# Altium schematic symbol library CN_TX53-CONNECTOR.Schlib: 1 symbol
Pins are listed as number, name and electrical type; pins without a type are passive.

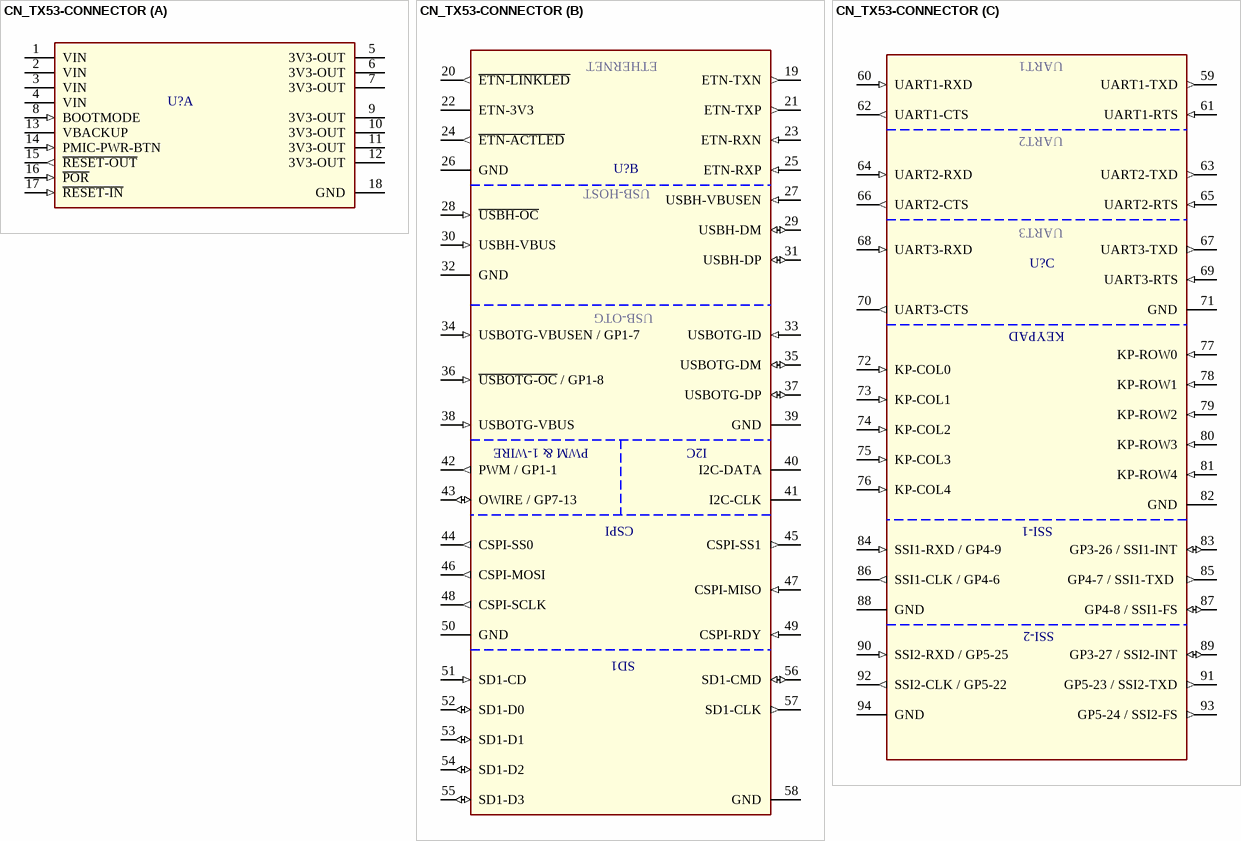
[diagram p0: symbol CN_TX53-CONNECTOR]

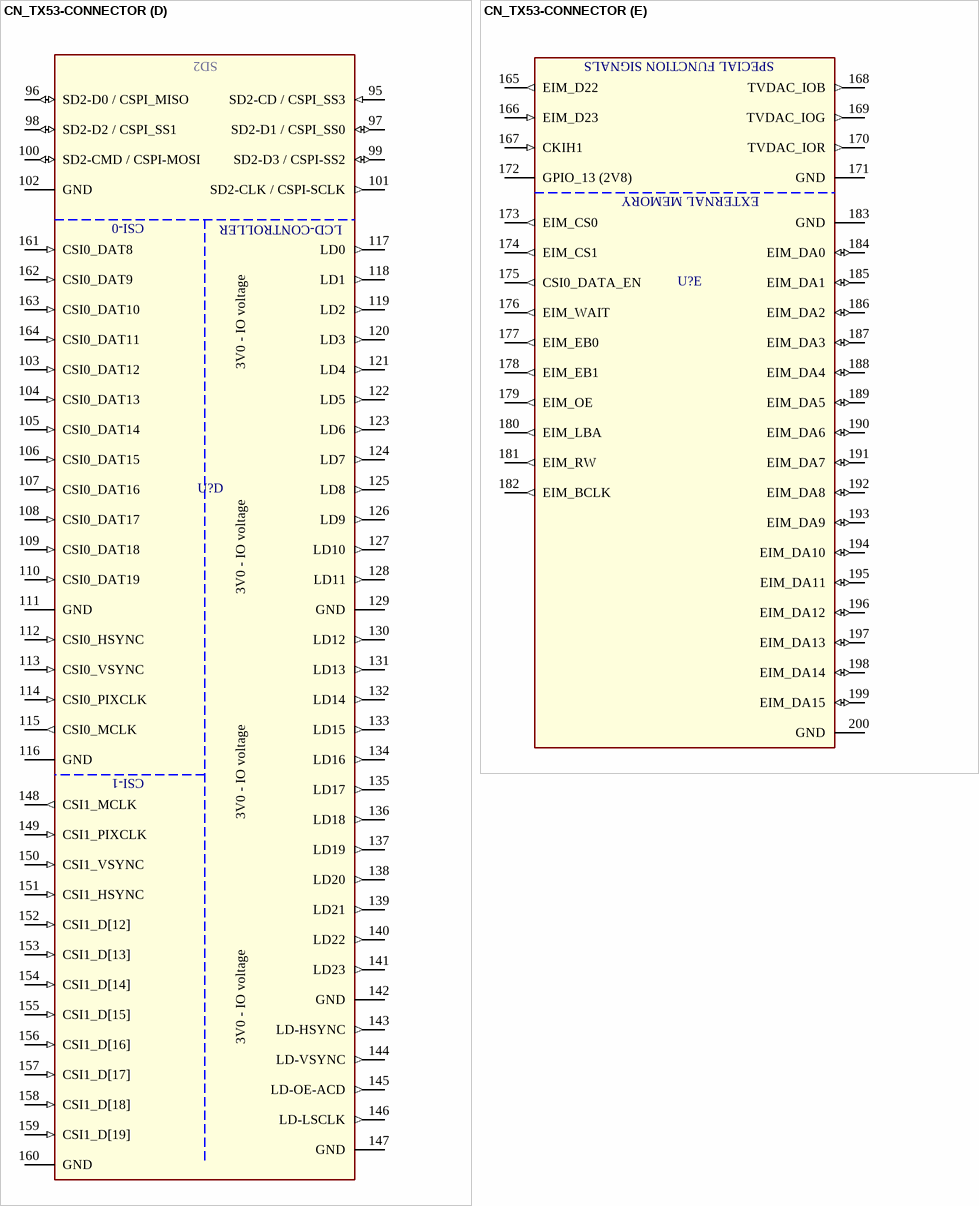
[diagram p1: symbol CN_TX53-CONNECTOR]

## CN_TX53-CONNECTOR
designator U?
part A pins: 1 VIN (power), 2 VIN (power), 3 VIN (power), 4 VIN (power), 5 3V3-OUT (power), 6 3V3-OUT (power), 7 3V3-OUT (power), 8 BOOTMODE (in), 9 3V3-OUT (power), 10 3V3-OUT (power), 11 3V3-OUT (power), 12 3V3-OUT (power), 13 VBACKUP (power), 14 PMIC-PWR-BTN (in), 15 ~{RESET-OUT} (out), 16 ~{POR} (in), 17 ~{RESET-IN} (in), 18 GND (power)
part B pins: 19 ETN-TXN (out), 20 ~{ETN-LINKLED} (out), 21 ETN-TXP (out), 22 ETN-3V3 (power), 23 ETN-RXN (in), 24 ~{ETN-ACTLED} (out), 25 ETN-RXP (in), 26 GND (power), 27 USBH-VBUSEN (in), 28 ~{USBH-OC} (in), 29 USBH-DM (io), 30 USBH-VBUS (in), 31 USBH-DP (io), 32 GND (power), 33 USBOTG-ID (in), 34 USBOTG-VBUSEN / GP1-7 (in), 35 USBOTG-DM (io), 36 ~{USBOTG-OC} / GP1-8 (in), 37 USBOTG-DP (io), 38 USBOTG-VBUS (in), 39 GND (power), 40 I2C-DATA (oc), 41 I2C-CLK (oc), 42 PWM / GP1-1 (out), 43 OWIRE / GP7-13 (io), 44 CSPI-SS0 (out), 45 CSPI-SS1 (out), 46 CSPI-MOSI (out), 47 CSPI-MISO (in), 48 CSPI-SCLK (out), 49 CSPI-RDY (in), 50 GND (power), 51 SD1-CD (in), 52 SD1-D0 (io), 53 SD1-D1 (io), 54 SD1-D2 (io), 55 SD1-D3 (io), 56 SD1-CMD (io), 57 SD1-CLK (out), 58 GND (power)
part C pins: 59 UART1-TXD (out), 60 UART1-RXD (in), 61 UART1-RTS (in), 62 UART1-CTS (out), 63 UART2-TXD (out), 64 UART2-RXD (in), 65 UART2-RTS (in), 66 UART2-CTS (out), 67 UART3-TXD (out), 68 UART3-RXD (in), 69 UART3-RTS (in), 70 UART3-CTS (out), 71 GND (power), 72 KP-COL0 (in), 73 KP-COL1 (in), 74 KP-COL2 (in), 75 KP-COL3 (in), 76 KP-COL4 (in), 77 KP-ROW0 (in), 78 KP-ROW1 (in), 79 KP-ROW2 (in), 80 KP-ROW3 (in), 81 KP-ROW4 (in), 82 GND (power), 83 GP3-26 / SSI1-INT (io), 84 SSI1-RXD / GP4-9 (in), 85  GP4-7 / SSI1-TXD  (out), 86 SSI1-CLK / GP4-6 (out), 87 GP4-8 / SSI1-FS (io), 88 GND (power), 89 GP3-27 / SSI2-INT (io), 90 SSI2-RXD / GP5-25 (in), 91 GP5-23 / SSI2-TXD (out), 92 SSI2-CLK / GP5-22 (out), 93 GP5-24 / SSI2-FS (out), 94 GND (power)
part D pins: 95 SD2-CD / CSPI_SS3 (in), 96 SD2-D0 / CSPI_MISO (io), 97 SD2-D1 / CSPI_SS0 (io), 98 SD2-D2 / CSPI_SS1 (io), 99 SD2-D3 / CSPI-SS2 (io), 100 SD2-CMD / CSPI-MOSI (io), 101 SD2-CLK / CSPI-SCLK (out), 102 GND (power), 103 CSI0_DAT12 (in), 104 CSI0_DAT13 (in), 105 CSI0_DAT14 (in), 106 CSI0_DAT15 (in), 107 CSI0_DAT16 (in), 108 CSI0_DAT17 (in), 109 CSI0_DAT18 (in), 110 CSI0_DAT19 (in), 111 GND (power), 112 CSI0_HSYNC (in), 113 CSI0_VSYNC (in), 114 CSI0_PIXCLK (in), 115 CSI0_MCLK (out), 116 GND (power), 117 LD0 (out), 118 LD1 (out), 119 LD2 (out), 120 LD3 (out), 121 LD4 (out), 122 LD5 (out), 123 LD6 (out), 124 LD7 (out), 125 LD8 (out), 126 LD9 (out), 127 LD10 (out), 128 LD11 (out), 129 GND (power), 130 LD12 (out), 131 LD13 (out), 132 LD14 (out), 133 LD15 (out), 134 LD16 (out), 135 LD17 (out), 136 LD18 (out), 137 LD19 (out), 138 LD20 (out), 139 LD21 (out), 140 LD22 (out), 141 LD23 (out), 142 GND (power), 143 LD-HSYNC (out), 144 LD-VSYNC (out), 145 LD-OE-ACD (out), 146 LD-LSCLK (out), 147 GND (power), 148 CSI1_MCLK (out), 149 CSI1_PIXCLK (in), 150 CSI1_VSYNC (in), 151 CSI1_HSYNC (in), 152 CSI1_D[12] (in), 153 CSI1_D[13] (in), 154 CSI1_D[14] (in), 155 CSI1_D[15] (in), 156 CSI1_D[16] (in), 157 CSI1_D[17] (in), 158 CSI1_D[18] (in), 159 CSI1_D[19] (in), 160 GND (power), 161 CSI0_DAT8 (in), 162 CSI0_DAT9 (in), 163 CSI0_DAT10 (in), 164 CSI0_DAT11 (in)
part E pins: 165 EIM_D22 (out), 166 EIM_D23 (in), 167 CKIH1 (in), 168 TVDAC_IOB (out), 169 TVDAC_IOG (out), 170 TVDAC_IOR (out), 171 GND (power), 172 GPIO_13 (2V8) (power), 173 EIM_CS0 (out), 174 EIM_CS1 (out), 175 CSI0_DATA_EN (out), 176 EIM_WAIT (out), 177 EIM_EB0 (out), 178 EIM_EB1 (out), 179 EIM_OE (out), 180 EIM_LBA (out), 181 EIM_RW (out), 182 EIM_BCLK (out), 183 GND (power), 184 EIM_DA0 (io), 185 EIM_DA1 (io), 186 EIM_DA2 (io), 187 EIM_DA3 (io), 188 EIM_DA4 (io), 189 EIM_DA5 (io), 190 EIM_DA6 (io), 191 EIM_DA7 (io), 192 EIM_DA8 (io), 193 EIM_DA9 (io), 194 EIM_DA10 (io), 195 EIM_DA11 (io), 196 EIM_DA12 (io), 197 EIM_DA13 (io), 198 EIM_DA14 (io), 199 EIM_DA15 (io), 200 GND (power)
part B text: ETHERNET; USB-HOST; USB-OTG; PWM & 1-WIRE; I2C; CSPI; SD1
part C text: UART1; UART2; UART3; KEYPAD; SSI-1; SSI-2
part D text: SD2; CSI-0; LCD-CONTROLLER; 3V0 - IO voltage; CSI-1
part E text: SPECIAL FUNCTION SIGNALS; EXTERNAL MEMORY